# Altium footprint library Diversos.PcbLib: 23 footprints (part 1 of 2)
Each footprint in its own frame and in the unit in brackets; x right, y up, seen from the top. Pads: shape width x height; smd on the part's side, far side on the other; paste and mask are expansions set on the pad; w line width, h text height; cw(c..) or ccw(c..) is an arc to the next point about the centre after c.
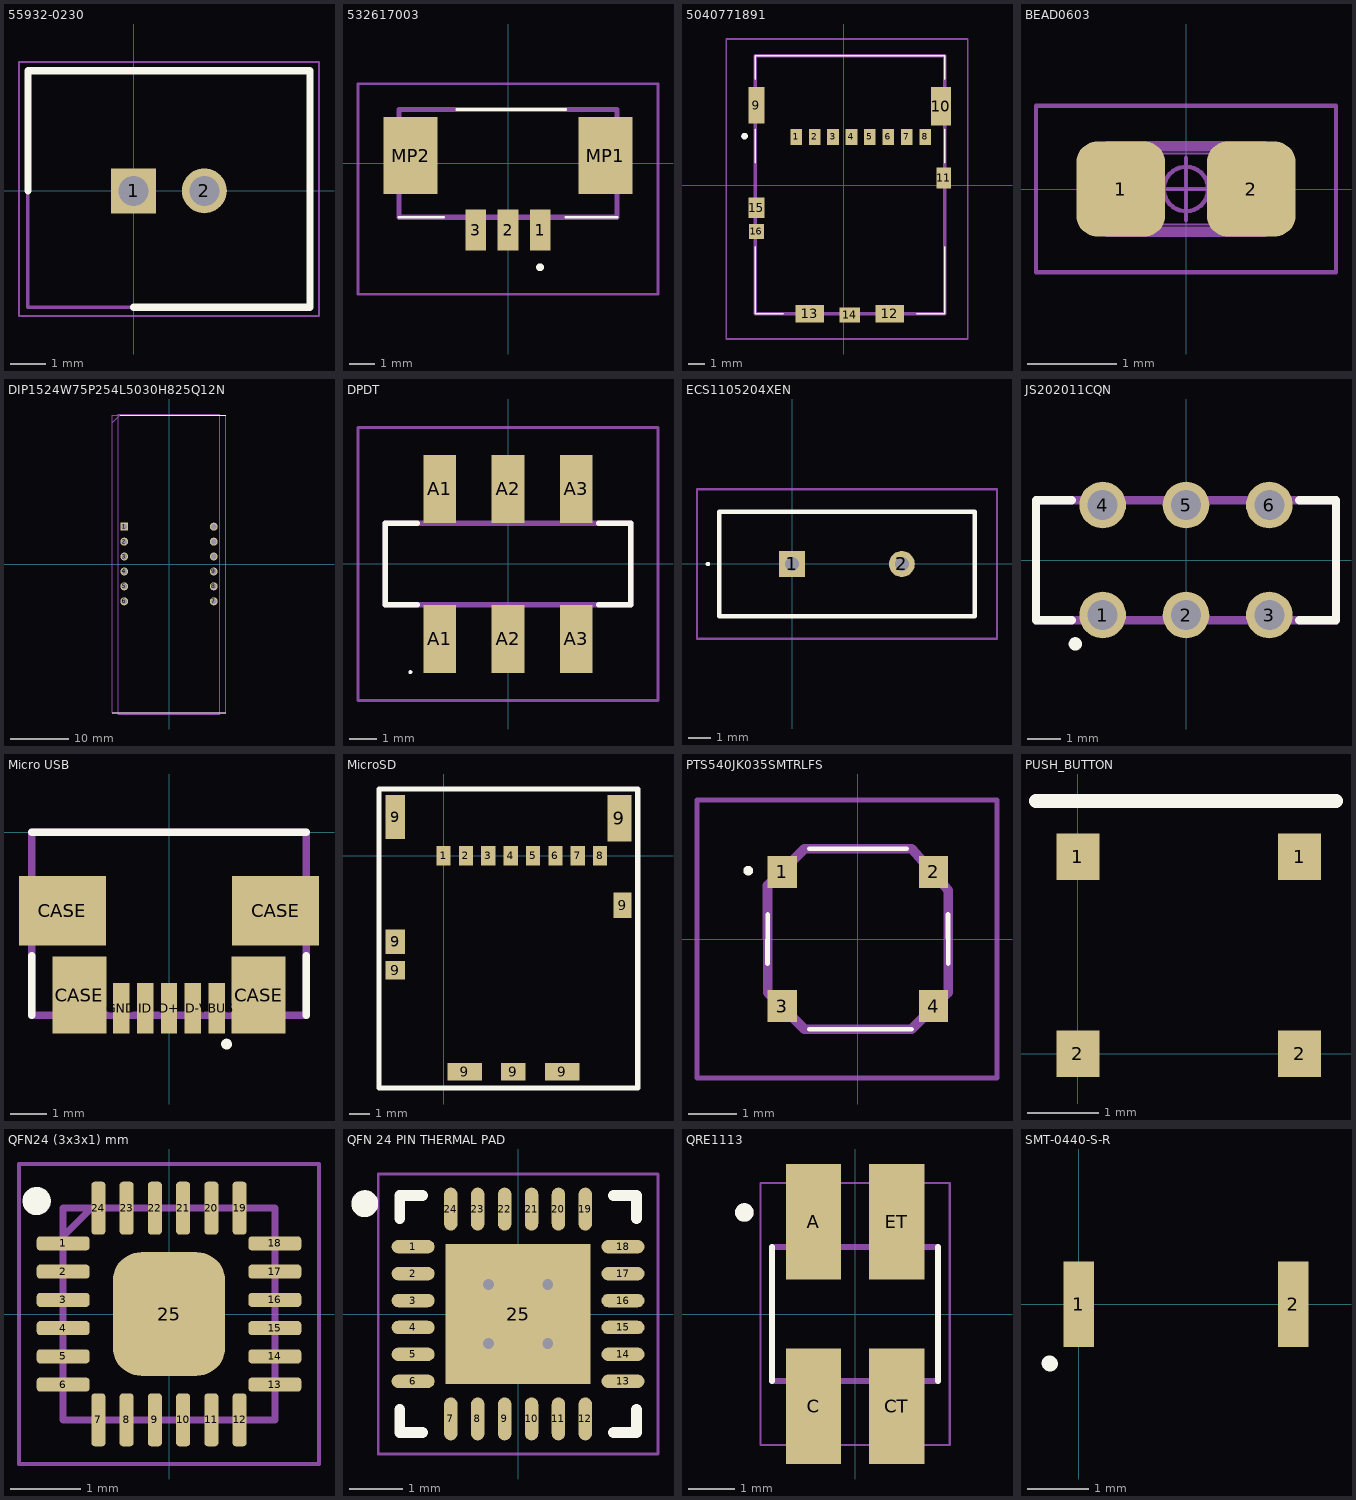
[diagram p0: the footprints below, top view; thin cyan lines are the x and y axes]

## 55932-0230 [mm]
pads (2):
  rect 1.275x1.275 hole 0.85: 1(0,0)
  round 1.275 hole 0.85: 2(2,0)
Top Overlay:
  lines w0.2: -3,0 -3,3.4 5,3.4 5,-3.3 0,-3.3
Mechanical 13:
  lines w0.1: -3,-3.3 5,-3.3 5,3.4 -3,3.4 -3,-3.3
Mechanical 15:
  lines w0.05: -3.25,-3.55 5.25,-3.55 5.25,3.65 -3.25,3.65 -3.25,-3.55
3D body "55932-0230.stp": height 9.74, standoff -3.2, extent -3,-2.9 5,3.8

## 532617003 [mm]
pads (5):
  rect 0.8x1.6 smd: 1(1.25,-2.6) 2(0,-2.6) 3(-1.25,-2.6)
  rect 2.1x3 smd: MP1(3.8,0.3) MP2(-3.8,0.3)
Top Overlay:
  lines w0.1: -4.25,-2.1 -2.5,-2.1 ; -2,2.1 2.25,2.1 ; 2.25,-2.1 4.25,-2.1
  lines w0.2: 1.25,-4.1 ccw(c1.25,-4.05) 1.25,-4 ; 1.25,-4.1 cw(c1.25,-4.05) 1.25,-4 ; 1.25,-4.1 ccw(c1.25,-4.05) 1.25,-4
Mechanical 13:
  lines w0.2: -4.25,-2.1 -4.25,2.1 4.25,2.1 4.25,-2.1 -4.25,-2.1
Mechanical 15:
  lines w0.1: -5.85,-5.1 -5.85,3.1 5.85,3.1 5.85,-5.1 -5.85,-5.1
3D body "53261-7003.stp": height 3.4, standoff 0, extent -4.45,-3.205 4.45,1.995

## 5040771891 [mm]
pads (16):
  rect 0.7x0.95 smd: 1(-2.847,2.887) 2(-1.747,2.887) 3(-0.647,2.887) 4(0.453,2.887) 5(1.553,2.887) 6(2.653,2.887) 7(3.753,2.887) 8(4.853,2.887)
  rect 0.95x2.17 smd: 9(-5.222,4.787)
  rect 1.19x2.3 smd: 10(5.798,4.722)
  rect 0.88x1.25 smd: 11(5.963,0.447)
  rect 1.7x1.03 smd: 12(2.753,-7.663) 13(-2.047,-7.663)
  rect 1.2x0.88 smd: 14(0.353,-7.738)
  rect 0.95x1.2 smd: 15(-5.222,-1.338)
  rect 0.9x0.9 smd: 16(-5.222,-2.748)
Top Overlay:
  lines w0.1: -5.29,-3.662 -5.29,-7.662 -3.63,-7.663 ; -5.29,1.338 -5.29,3.338 ; -5.29,6.338 -5.29,7.738 6.03,7.738 6.03,6.338 ; 4.37,-7.663 6.03,-7.662 6.03,-3.662 ; 6.03,1.338 6.03,3.338
  lines w0.2: -5.93,2.838 ccw(c-5.93,2.938) -5.93,3.038 ccw(c-5.93,2.938) -5.93,2.838
Mechanical 13:
  lines w0.2: -5.29,-7.662 -5.29,7.738 6.03,7.738 6.03,-7.662 -5.29,-7.662
Mechanical 15:
  lines w0.1: -7.03,-9.178 -7.03,8.738 7.403,8.738 7.403,-9.178 -7.03,-9.178
3D body "504077-1891.stp": height 1.28, standoff 0, extent -5.381,-7.975 5.999,5.525

## BEAD0603 [mm] "Ferrite Bead, Chip; 1.60 mm L X 0.80 mm W X 0.95 mm H body"
height 0.95
pads (2):
  rrect47% 1x1.07 smd: 1(-0.735,0) 2(0.735,0)
Mechanical 11:
  lines w0.12: -0.88,-0.48 0.88,-0.48 0.88,0.48 -0.88,0.48 -0.88,-0.48
Mechanical 12:
  lines w0.025: -0.8,-0.4 0.8,-0.4 ; -0.8,-0.4 -0.8,0.4 ; -0.8,-0.4 -0.8,0.4 ; -0.8,-0.4 -0.3,-0.4 -0.3,0.4 -0.8,0.4 ; -0.8,0.4 0.8,0.4 ; 0.8,-0.4 0.8,0.4 ; 0.8,-0.4 0.3,-0.4 0.3,0.4 0.8,0.4 ; 0.8,-0.4 0.8,0.4
Mechanical 15:
  circle w0.05: c0,0 r0.25
  lines w0.05: -0.35,0 0.35,0 ; 0,-0.35 0,0.35 ; -1.69,-0.94 1.69,-0.94 1.69,0.94 -1.69,0.94 -1.69,-0.94
Mechanical 16:
  text ".Designator" at 0,0 h1.5
3D body "BEADC160X80X95L50.STEP": height 0.95, standoff 0, extent -0.8,-0.4 0.8,0.4

## DIP1524W75P254L5030H825Q12N [mm]
pads (12):
  rect 1.35x1.35 hole 0.95: 1(-7.62,6.35)
  round 1.35 hole 0.95: 2(-7.62,3.81) 3(-7.62,1.27) 4(-7.62,-1.27) 5(-7.62,-3.81) 6(-7.62,-6.35) 7(7.62,-6.35) 8(7.62,-3.81) 9(7.62,-1.27) 10(7.62,1.27) 11(7.62,3.81) 12(7.62,6.35)
Top Overlay:
  lines w0.2: -9.625,-25.275 9.625,-25.275 ; -8.295,25.275 9.625,25.275
Mechanical 13:
  lines w0.1: -9.625,24.005 -8.355,25.275 ; -9.625,-25.275 9.625,-25.275 9.625,25.275 -9.625,25.275 -9.625,-25.275
Mechanical 15:
  lines w0.05: -8.67,-25.525 8.67,-25.525 8.67,25.525 -8.67,25.525 -8.67,-25.525
3D body "LTC-5723HR.stp": height 8.25, standoff -5.77, extent -9.5,-25.15 9.5,25.15

## DPDT [mm]
pads (6):
  rect 1.2x2.5 smd: A1(-2.5,-2.75) A1(-2.5,2.75) A2(0,-2.75) A2(0,2.75) A3(2.5,-2.75) A3(2.5,2.75)
Top Overlay:
  lines w0.072: -3.614,-3.968 ccw(c-3.578,-3.968) -3.542,-3.968 ccw(c-3.578,-3.968) -3.614,-3.968
  lines w0.2: -3.323,-1.5 -4.5,-1.5 -4.5,1.5 -3.323,1.5 ; 3.323,-1.5 4.5,-1.5 4.5,1.5 3.323,1.5
Mechanical 13:
  lines w0.2: -4.5,-1.5 4.5,-1.5 4.5,1.5 -4.5,1.5 -4.5,-1.5
Mechanical 15:
  lines w0.1: -5.5,-5.004 5.5,-5.004 5.5,5 -5.5,5 -5.5,-5.004
3D body "JS202011SCQN.stp": height 5.65, standoff -0.2, extent -4.5,-3.5 4.5,3.5

## ECS1105204XEN [mm]
pads (2):
  rect 1.155x1.155 hole 0.63: 1(0,0)
  round 1.155 hole 0.63: 2(4.88,0)
Top Overlay:
  lines w0.1: -3.8,0 cw(c-3.75,0) -3.7,0 cw(c-3.75,0) -3.8,0
  lines w0.2: -3.235,-2.325 -3.235,2.325 8.115,2.325 8.115,-2.325 -3.235,-2.325
Mechanical 13:
  lines w0.1: -3.235,-2.325 -3.235,2.325 8.115,2.325 8.115,-2.325 -3.235,-2.325
Mechanical 15:
  lines w0.1: -4.235,-3.325 -4.235,3.325 9.115,3.325 9.115,-3.325 -4.235,-3.325
3D body "ECS-110.5-20-4X-EN.stp": height 3.6, standoff -5, extent -3.235,-2.325 8.115,2.325

## JS202011CQN [mm]
pads (6):
  round 1.4 hole 0.9: 1(-2.5,-1.65) 2(0,-1.65) 3(2.5,-1.65) 4(-2.5,1.65) 5(0,1.65) 6(2.5,1.65)
Top Overlay:
  circle w0.254: c-3.319,-2.516 r0.073
  lines w0.254: -3.433,-1.8 -4.5,-1.8 -4.5,1.8 -3.433,1.8 ; 3.393,-1.8 4.5,-1.8 4.5,1.8 3.393,1.8
Mechanical 13:
  lines w0.254: -4.5,-1.8 4.5,-1.8 4.5,1.8 -4.5,1.8 -4.5,-1.8
3D body "JS202011CQN.stp": height 5.38, standoff -3.12, extent -4.5,-1.84 4.5,1.76

## Micro USB [mm]
pads (9):
  rect 2.375x1.9 smd: CASE(-2.913,-2.15) CASE(2.913,-2.15)
  rect 1.475x2.1 smd: CASE(-2.452,-4.45) CASE(2.452,-4.45)
  rect 0.45x1.38 smd: D+(0,-4.81) D-(0.65,-4.81) GND(-1.3,-4.81) ID(-0.65,-4.81) VBUS(1.3,-4.81)
Top Overlay:
  circle w0.2: c1.572,-5.79 r0.046
  lines w0.2: -3.75,-5 -3.75,-3.373 ; -3.75,0 3.75,0 ; 3.75,-5 3.75,-3.373
Mechanical 13:
  lines w0.2: -3.75,-5 3.75,-5 3.75,0 -3.75,0 -3.75,-5
3D body "47346-0001.stp": height 2.66, standoff -0.05, extent -3.9,-5 3.9,0

## MicroSD [mm]
pads (16):
  rect 0.7x0.95 smd: 1(0,0) 2(1.1,0) 3(2.2,0) 4(3.3,0) 5(4.4,0) 6(5.5,0) 7(6.6,0) 8(7.7,0)
  rect 0.95x0.9 smd: 9(-2.375,-5.63)
  rect 0.95x1.2 smd: 9(-2.375,-4.22)
  rect 0.95x2.17 smd: 9(-2.375,1.905)
  rect 1.7x0.88 smd: 9(1.038,-10.62) 9(5.838,-10.62)
  rect 1.2x0.88 smd: 9(3.438,-10.62)
  rect 1.19x2.3 smd: 9(8.65,1.84)
  rect 0.88x1.25 smd: 9(8.805,-2.435)
Top Overlay:
  lines w0.254: -3.166,-11.414 -3.166,3.284 9.55,3.284 9.55,-11.414 -3.166,-11.414
3D body "5040771891.stp": height 1.41, standoff 0.13, extent -2.457,-10.804 8.923,2.696

## PTS540JK035SMTRLFS [mm]
pads (4):
  rect 0.6x0.65 smd: 1(-1.55,1.375) 2(1.55,1.375) 3(-1.55,-1.375) 4(1.55,-1.375)
Top Overlay:
  lines w0.1: -1.856,-0.5 -1.85,0.5 ; -1,-1.85 1.1,-1.85 ; -1,1.85 1,1.85 ; 1.845,0.5 1.85,-0.5 ; -2.3,1.4 cw(c-2.25,1.4) -2.2,1.4 cw(c-2.25,1.4) -2.3,1.4
Mechanical 13:
  lines w0.2: -1.856,1.1 -1.1,1.85 1.1,1.85 1.85,1 1.85,-1.1 1.1,-1.85 0,-1.85 -1.1,-1.85 -1.85,-1.1 -1.856,1.1
Mechanical 15:
  lines w0.1: -3.3,-2.85 -3.3,2.85 2.85,2.85 2.85,-2.85 -3.3,-2.85
3D body "PTS540JK035SMTRLFS.stp": height 0.6, standoff 0, extent -1.856,-1.85 1.85,1.85

## PUSH_BUTTON [mm]
pads (4):
  rect 0.6x0.65 smd: 1(0,2.75) 1(3.1,2.75) 2(0,0) 2(3.1,0)
Top Overlay:
  lines w0.2: -0.584,3.531 3.607,3.531
3D body "PTS540JK035SMTRLFS.stp": height 0.3, standoff -0.05, extent -0.291,-0.453 3.409,3.247

## QFN24 (3x3x1) mm [mm]
pads (25):
  rrect50% 0.75x0.2 smd: 1(-1.5,1) 2(-1.5,0.6) 3(-1.5,0.2) 4(-1.5,-0.2) 5(-1.5,-0.6) 6(-1.5,-1) 13(1.5,-1) 14(1.5,-0.6) 15(1.5,-0.2) 16(1.5,0.2) 17(1.5,0.6) 18(1.5,1)
  rrect50% 0.2x0.75 smd: 7(-1,-1.5) 8(-0.6,-1.5) 9(-0.2,-1.5) 10(0.2,-1.5) 11(0.6,-1.5) 12(1,-1.5) 19(1,1.5) 20(0.6,1.5) 21(0.2,1.5) 22(-0.2,1.5) 23(-0.6,1.5) 24(-1,1.5)
  rrect50% 1.59x1.75 smd: 25(0,0)
Top Overlay:
  circle w0.2: c-1.875,1.6 r0.1
Mechanical 13:
  lines w0.1: -1.5,1.1 -1.1,1.5 ; -1.5,-1.5 -1.5,1.5 1.5,1.5 1.5,-1.5 -1.5,-1.5
Mechanical 15:
  lines w0.05: -2.125,-2.125 -2.125,2.125 2.125,2.125 2.125,-2.125 -2.125,-2.125
3D body "MPU-9250.stp": height 1.05, standoff 0, extent -1.55,-1.55 1.55,1.55

## QFN 24 PIN THERMAL PAD [mm] "QFN, 24-Leads, Body 4,00x4,00mm, Pitch 0,50mm, Thermal Pad 2,70x2,60mm, IPC Medium Density"
height 0.9
pads (25):
  oval 0.8x0.25 smd: 1(-1.95,1.25) 2(-1.95,0.75) 3(-1.95,0.25) 4(-1.95,-0.25) 5(-1.95,-0.75) 6(-1.95,-1.25) 13(1.95,-1.25) 14(1.95,-0.75) 15(1.95,-0.25) 16(1.95,0.25) 17(1.95,0.75) 18(1.95,1.25)
  oval 0.25x0.8 smd: 7(-1.25,-1.95) 8(-0.75,-1.95) 9(-0.25,-1.95) 10(0.25,-1.95) 11(0.75,-1.95) 12(1.25,-1.95) 19(1.25,1.95) 20(0.75,1.95) 21(0.25,1.95) 22(-0.25,1.95) 23(-0.75,1.95) 24(-1.25,1.95)
  rect 2.7x2.6 smd: 25(0,0)
via -0.55,0.55 diameter 0.5 hole 0.2
via 0.55,0.55 diameter 0.5 hole 0.2
via -0.55,-0.55 diameter 0.5 hole 0.2
via 0.55,-0.55 diameter 0.5 hole 0.2
Top Overlay:
  circle w0.25: c-2.85,2.05 r0.125
  lines w0.2: -2.2,-1.775 -2.2,-2.2 -1.775,-2.2 ; -2.2,1.775 -2.2,2.2 -1.775,2.2 ; 1.775,-2.2 2.2,-2.2 2.2,-1.775 ; 1.775,2.2 2.2,2.2 2.2,1.775
Mechanical 15:
  lines w0.05: -2.6,-2.6 -2.6,2.6 2.6,2.6 2.6,-2.6 -2.6,-2.6
  lines w0.1: -0.5,0 0.5,0 ; 0,-0.5 0,0.5
3D body "User Library-mpu-6050_qfn-24.STEP": height 0.88, standoff -0.02, extent -2.007,-2.008 2.033,2.032

## QRE1113 [mm]
pads (4):
  rect 1.2x2.5 smd: A(-0.9,2) C(-0.9,-2) CT(0.9,-2) ET(0.9,2)
Top Overlay:
  circle w0.2: c-2.4,2.2 r0.1
  lines w0.127: -1.8,-1.45 -1.8,1.45 ; 1.8,-1.45 1.8,1.45
Mechanical 13:
  circle w0.2: c-2.4,2.2 r0.1
  lines w0.127: -1.8,-1.45 1.8,-1.45 1.8,1.45 -1.8,1.45 -1.8,-1.45
Mechanical 15:
  lines w0.05: -2.05,-2.84 2.05,-2.84 2.05,2.84 -2.05,2.84 -2.05,-2.84
3D body "User Library-QRE1113GR.STEP": height 1.7, standoff -0.15, extent -1.797,-2.425 1.803,2.375

## SMT-0440-S-R [mm]
pads (2):
  rect 0.5x1.4 smd: 1(0,0) 2(3.5,0)
Top Overlay:
  lines w0.254: -0.483,-0.965 cw(c-0.483,-0.991) -0.469,-0.969
3D body "SMT-0440-S-R.stp": height 2, standoff 0, extent -0.248,-1.994 3.752,2.006